# Altium schematic symbol library ISL8206MIRZ.SchLib: 1 symbol
Pins are listed as number, name and electrical type; pins without a type are passive.

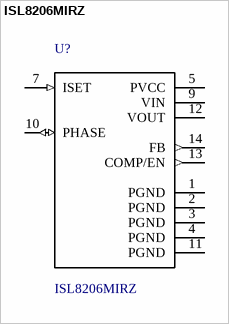
[diagram p0: symbol ISL8206MIRZ]

## ISL8206MIRZ
designator U?
/ ISL8206 Series 1 - 20 V 6 A 660 kHz DC/DC Power Module - QFN-15 /; MF: Renesas Electronics; Digi-Key_Part_Number: ISL8206MIRZ-ND; Package: QFN-15 Intersil; MP: ISL8206MIRZ; Digi-Key_Purchase_URL: https://www.digikey.com/product-detail/en/renesas-electronics-america-inc/ISL8206MIRZ/ISL8206MIRZ-ND/2202789?utm_source=snapeda&utm_medium=aggregator&utm_campaign=symbol; SnapEDA_Link: https://www.snapeda.com/parts/ISL8206MIRZ/Renesas%20Electronics%20America%20Inc./view-part/?ref=snap; Value: *
footprint *INTERSIL_ISL8206MIRZ
pins: 1 PGND (power), 2 PGND (power), 3 PGND (power), 4 PGND (power), 5 PVCC (power), 7 ISET (in), 9 VIN (power), 10 PHASE (io), 11 PGND (power), 12 VOUT (power), 13 COMP/EN (out), 14 FB (out)